# EAGLE library part DRV8811 (library texas-drv8811)
Stepper Motor Controller The DRV8811 IC provides an integrated stepper motor driver solution. The device has two H-bridge drivers, as well as microstepping indexer logic to control a stepper motor. The output driver block for each consists of N-channel power MOSFETs configured as full H-bridges to drive the motor windings. Source: http://www.ti.com/lit/ds/symlink/drv8811.pdf
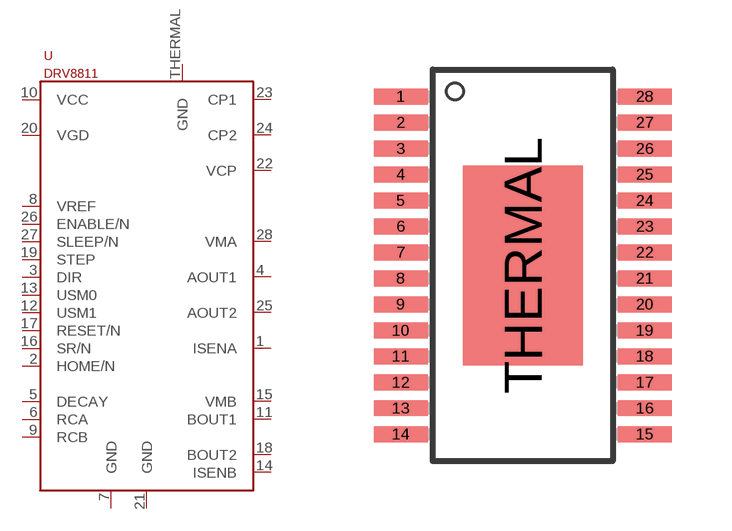
[diagram p0: symbol with the pads of HTSSOP28; footprint HTSSOP28]

Designator prefix -

## DRV8811PWP/R (MF: TEXAS INSTRUMENTS)  [HTSSOP28]
1  ISENA  sup
2  HOME/N  out
3  DIR  in
4  AOUT1  out
5  DECAY  in
6  RCA  in
7  GND  pwr
8  VREF  in
9  RCB  in
10  VCC  pwr
11  BOUT1  out
12  USM1  in
13  USM0  in
14  ISENB  sup
15  VMB  pwr
16  SR/N  in
17  RESET/N  in
18  BOUT2  out
19  STEP  in
20  VGD
21  GND  pwr
22  VCP
23  CP1
24  CP2
25  AOUT2  out
26  ENABLE/N  in
27  SLEEP/N  in
28  VMA  pwr
THERMAL  GND  pwr

## Footprint HTSSOP28 (pad centres in mm)
smd 1.35 x 0.4: 1 0.755,-0.855; 2 0.755,-1.505; 3 0.755,-2.16; 4 0.755,-2.805; 5 0.755,-3.46; 6 0.755,-4.105; 7 0.755,-4.755; 8 0.755,-5.405; 9 0.755,-6.055; 10 0.755,-6.71; 11 0.755,-7.355; 12 0.755,-8.01; 13 0.755,-8.655; 14 0.755,-9.305; 15 6.86,-9.305; 16 6.86,-8.655; 17 6.86,-8.01; 18 6.86,-7.355; 19 6.86,-6.71; 20 6.86,-6.055; 21 6.86,-5.405; 22 6.86,-4.755; 23 6.86,-4.105; 24 6.86,-3.46; 25 6.86,-2.805; 26 6.86,-2.16; 27 6.86,-1.505; 28 6.86,-0.855
smd 3 x 5: THERMAL 3.81,-5.08